# EAGLE library part ZM_1080 (library zm_1080)
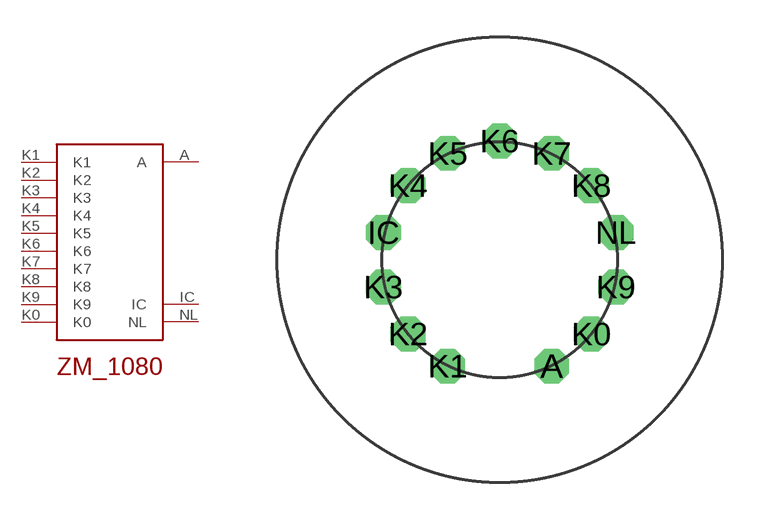
[diagram p0: symbol with the pads of ZM_1080; footprint ZM_1080]

Designator prefix -

## ZM_1080  [ZM_1080]
A  A
IC  IC
K0  K0
K1  K1
K2  K2
K3  K3
K4  K4
K5  K5
K6  K6
K7  K7
K8  K8
K9  K9
NL  NL

## Footprint ZM_1080 (pad centres in mm)
drill 0.9 octagon: A 2.1,-4.3; IC -4.7,1.1; K0 3.7,-3; K1 -2.1,-4.3; K2 -3.7,-3; K3 -4.7,-1.1; K4 -3.7,3; K5 -2.1,4.3; K6 0,4.8; K7 2.1,4.3; K8 3.7,3; K9 4.7,-1.1; NL 4.7,1.1